# Altium footprint library PCB - BUTTONS - 2-1825910-7 (FSM14JH).PcbLib: 1 footprints
Each footprint in its own frame and in the unit in brackets; x right, y up, seen from the top. Pads: shape width x height; smd on the part's side, far side on the other; paste and mask are expansions set on the pad; w line width, h text height; cw(c..) or ccw(c..) is an arc to the next point about the centre after c.
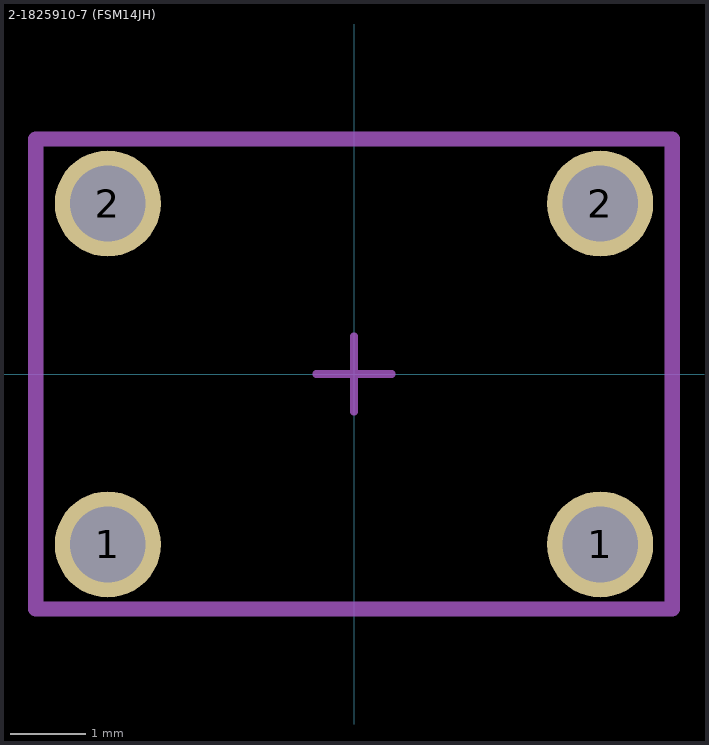
[diagram p0: the footprint, top view; thin cyan lines are the x and y axes]

## 2-1825910-7 (FSM14JH) [mm] "Tactile Switch, SMD 6x6x13mm"
height 13
pads (4):
  round 1.4 hole 1: 1(-3.25,-2.25) 1(3.25,-2.25) 2(-3.25,2.25) 2(3.25,2.25)
Top Assembly:
  lines w0.2: -4.2,-3.1 4.2,-3.1 4.2,3.1 -4.2,3.1 -4.2,-3.1
Top Courtyard:
  lines w0.1: -4.2,-3.1 -4.2,3.1 4.2,3.1 4.2,-3.1 -4.2,-3.1
Top Component Center:
  lines w0.1: -0.5,0 0.5,0 ; 0,-0.5 0,0.5
3D body "c-2-1825910-7-c-3d.stp": height 13, standoff -3.51, extent -3.9,-2.99 3.9,3